# Altium schematic symbol library ACZ11BR1E-15KQA1-12C.SchLib: 1 symbol
Pins are listed as number, name and electrical type; pins without a type are passive.

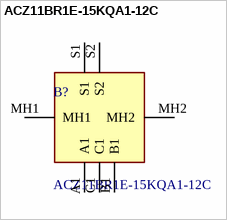
[diagram p0: symbol ACZ11BR1E-15KQA1-12C]

## ACZ11BR1E-15KQA1-12C
designator B?
Encoders INCR ENC, S, MECH, 12 PPR 12 DET, 5 Vdc, A/B, 2-bit, SW, 5 mm tbush 15 x 6 mm KQ shaft, horizontal; Manufacturer_Name: CUI Devices; Geometry.Height: 13.75mm; Mouser Part Number: 490-ACZ1115KQA112C; Mouser Price/Stock: https://www.mouser.co.uk/ProductDetail/CUI-Devices/ACZ11BR1E-15KQA1-12C?qs=WyjlAZoYn501aYQzKwgM%2Fw%3D%3D; Manufacturer_Part_Number: ACZ11BR1E-15KQA1-12C; Datasheet Link: *
footprint ACZ11BR1E15KQA112C
pins: A1, B1, C1, MH1, MH2, S1, S2